# Altium footprint library CSD16556Q5B.PcbLib: 1 footprints
Each footprint in its own frame and in the unit in brackets; x right, y up, seen from the top. Pads: shape width x height; smd on the part's side, far side on the other; paste and mask are expansions set on the pad; w line width, h text height; cw(c..) or ccw(c..) is an arc to the next point about the centre after c.
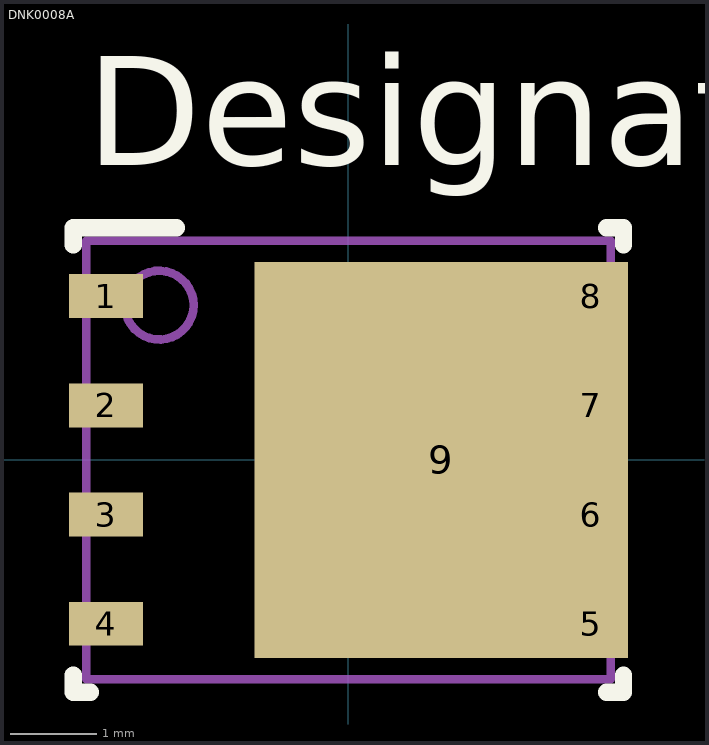
[diagram p0: the footprint, top view; thin cyan lines are the x and y axes]

## DNK0008A [mm]
pads (9):
  rect 0.86x0.51 smd paste-0.05 mask-0.051: 1(-2.82,1.905) 2(-2.82,0.635) 3(-2.82,-0.635) 4(-2.82,-1.905) 5(2.82,-1.905) 6(2.82,-0.635) 7(2.82,0.635) 8(2.82,1.905)
  rect 4.34x4.6 smd paste-2.287 mask-0.051: 9(1.08,0)
Top Overlay:
  lines w0.2: -3.2,-2.5 -3.2,-2.7 -3,-2.7 ; -3.2,2.5 -3.2,2.7 -2,2.7 ; 3,-2.7 3.2,-2.7 3.2,-2.5 ; 3,2.7 3.2,2.7 3.2,2.5
  text "Designator109" at -3.048,3.429 h1.27
Top Paste:
  drawing of 6 lines, arcs and shapes, not listed
Mechanical 13:
  circle w0.1: c-2.2,1.8 r0.4
  lines w0.1: -3.05,-2.55 3.05,-2.55 3.05,2.55 -3.05,2.55 -3.05,-2.55